# Altium footprint library db.PcbLib: 32 footprints (part 2 of 2)
Each footprint in its own frame and in the unit in brackets; x right, y up, seen from the top. Pads: shape width x height; smd on the part's side, far side on the other; paste and mask are expansions set on the pad; w line width, h text height; cw(c..) or ccw(c..) is an arc to the next point about the centre after c.
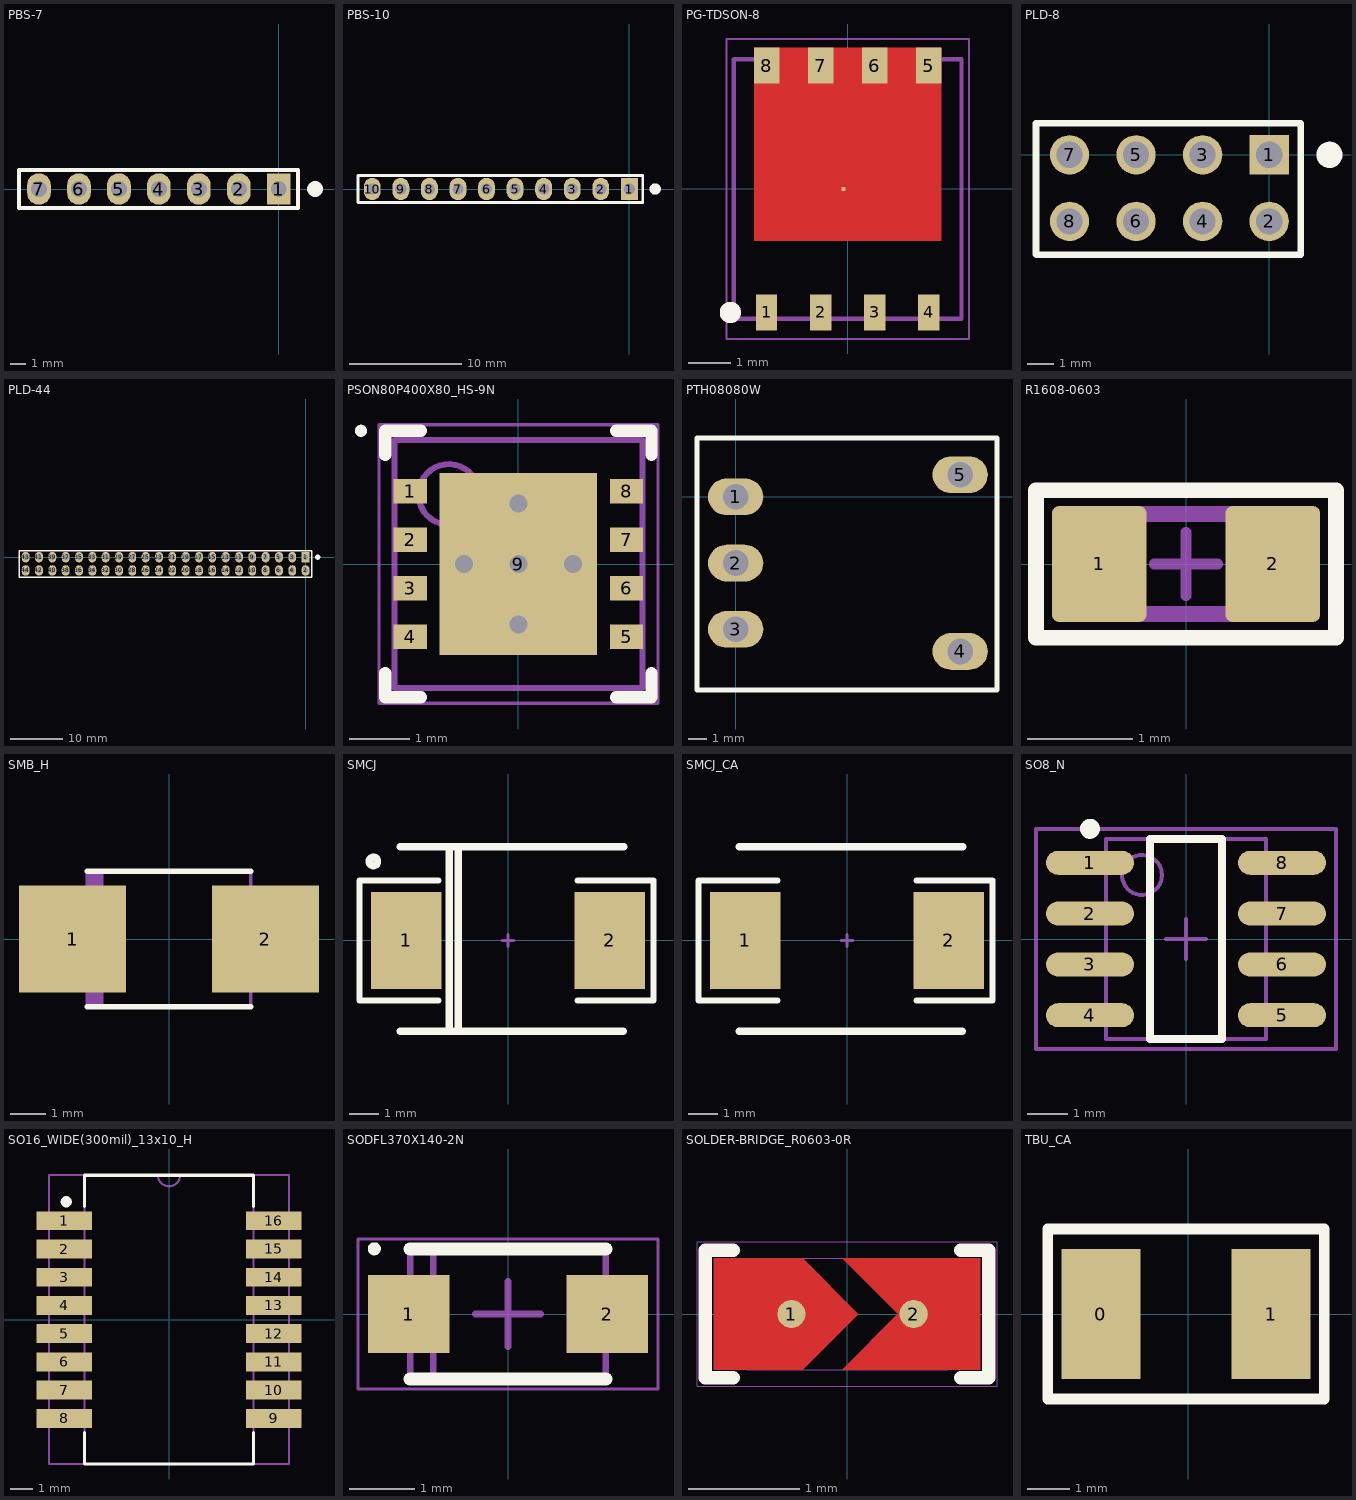
[diagram p1: the footprints below, top view; thin cyan lines are the x and y axes]

## PBS-7 [mm] "Разъем на плату"
pads (7):
  rect 1.5x2 hole 1: 1(0,0)
  oval 1.5x2 hole 1: 2(-2.54,0) 3(-5.08,0) 4(-7.62,0) 5(-10.16,0) 6(-12.7,0) 7(-15.24,0)
Top Overlay:
  circle w0.5: c2.3,0 r0.25
  lines w0.254: -16.51,-1.2 1.2,-1.2 1.2,1.2 -16.51,1.2 -16.51,-1.2
3D body "PBS-7.step": height 8.5, standoff -3, extent -16.51,-1.27 1.27,1.27

## PBS-10 [mm] "Разъем на плату"
pads (10):
  rect 1.5x2 hole 1: 1(0,0)
  oval 1.5x2 hole 1: 2(-2.54,0) 3(-5.08,0) 4(-7.62,0) 5(-10.16,0) 6(-12.7,0) 7(-15.24,0) 8(-17.78,0) 9(-20.32,0) 10(-22.86,0)
Top Overlay:
  circle w0.5: c2.3,0 r0.25
  lines w0.254: -24.13,-1.2 1.2,-1.2 1.2,1.2 -24.13,1.2 -24.13,-1.2
3D body "PBS-10.step": height 8.5, standoff -3, extent -24.13,-1.27 1.27,1.27

## PG-TDSON-8 [mm]
pads (9):
  rect 0.5x0.85 smd paste-0.05: 1(-1.905,-2.9) 2(-0.635,-2.9) 3(0.635,-2.9) 4(1.905,-2.9)
  rect 0.6x0.85 smd paste-0.05: 5(1.905,2.9) 6(0.635,2.9) 7(-0.635,2.9) 8(-1.905,2.9)
  rect 0.1x0.1 smd paste-1 mask-1: 9(-0.1,0)
Top Layer:
  rectangle: -2.205,-1.225 2.205,3.325
Top Overlay:
  circle w0.25: c-2.755,-2.9 r0.125
Top Paste:
  rectangle: 0.1,-0.95 1.6,0.55
  rectangle: 0.1,0.75 1.6,2.25
  rectangle: -1.6,-0.95 -0.1,0.55
  rectangle: -1.6,0.75 -0.1,2.25
Mechanical 13:
  lines w0.1: -2.675,-3.05 -2.675,3.05 2.675,3.05 2.675,-3.05 -2.675,-3.05
Mechanical 15:
  lines w0.05: -2.85,-3.525 -2.85,3.525 2.85,3.525 2.85,-3.525 -2.85,-3.525
3D body "User Library-TDSON-8-1.STEP": height 1, standoff 0, extent -2.675,-3.075 2.675,3.075

## PLD-8 [mm] "Разъем на плату"
pads (8):
  rect 1.5x1.5 hole 1: 1(0,0)
  round 1.5 hole 1: 2(0,-2.54) 3(-2.54,0) 4(-2.54,-2.54) 5(-5.08,0) 6(-5.08,-2.54) 7(-7.62,0) 8(-7.62,-2.54)
Top Overlay:
  circle w0.5: c2.3,0 r0.25
  lines w0.254: -8.9,-3.8 -8.9,1.2 1.2,1.2 1.2,-3.81 -8.89,-3.81 -8.9,-3.8
3D body "PLD-8.step": height 8.6, standoff -3, extent -8.89,-3.81 1.27,1.27

## PLD-44 [mm] "Разъем на плату"
pads (44):
  rect 1.5x2 hole 1: 1(0,0)
  oval 1.5x2 hole 1: 2(0,-2.54) 3(-2.54,0) 4(-2.54,-2.54) 5(-5.08,0) 6(-5.08,-2.54) 7(-7.62,0) 8(-7.62,-2.54) 9(-10.16,0) 10(-10.16,-2.54) 11(-12.7,0) 12(-12.7,-2.54) 13(-15.24,0) 14(-15.24,-2.54) 15(-17.78,0) 16(-17.78,-2.54) 17(-20.32,0) 18(-20.32,-2.54) 19(-22.86,0) 20(-22.86,-2.54) 21(-25.4,0) 22(-25.4,-2.54) 23(-27.94,0) 24(-27.94,-2.54) 25(-30.48,0) 26(-30.48,-2.54) 27(-33.02,0) 28(-33.02,-2.54) 29(-35.56,0) 30(-35.56,-2.54) 31(-38.1,0) 32(-38.1,-2.54) 33(-40.64,0) 34(-40.64,-2.54) 35(-43.18,0) 36(-43.18,-2.54) 37(-45.72,0) 38(-45.72,-2.54) 39(-48.26,0) 40(-48.26,-2.54) 41(-50.8,0) 42(-50.8,-2.54) 43(-53.34,0) 44(-53.34,-2.54)
Top Overlay:
  circle w0.5: c2.3,0 r0.25
  lines w0.254: -54.61,-3.81 1.2,-3.81 1.2,1.2 -54.61,1.2 -54.61,-3.81
3D body "PLD-22.step": height 9.6, standoff -2, extent -26.67,-3.81 1.27,1.27
3D body "PLD-22.step": height 9.6, standoff -2, extent -54.61,-3.81 -26.67,1.27

## PSON80P400X80_HS-9N [mm]
pads (9):
  rect 0.55x0.4 smd: 1(-1.785,1.2) 2(-1.785,0.4) 3(-1.785,-0.4) 4(-1.785,-1.2) 5(1.785,-1.2) 6(1.785,-0.4) 7(1.785,0.4) 8(1.785,1.2)
  rect 2.6x3 smd paste-1.3: 9(0,0)
via -0.9,0 diameter 0.7 hole 0.3
via 0.9,0 diameter 0.7 hole 0.3
via 0,-1 diameter 0.7 hole 0.3
via 0,0 diameter 0.7 hole 0.3
via 0,1 diameter 0.7 hole 0.3
Top Overlay:
  circle w0.1: c-2.6,2.2 r0.05
  lines w0.2: -2.2,-1.8 -2.2,-2.2 -1.61,-2.2 ; -2.2,1.8 -2.2,2.2 -1.61,2.2 ; 1.61,-2.2 2.2,-2.2 2.2,-1.8 ; 1.61,2.2 2.2,2.2 2.2,1.8
Top Paste:
  rectangle: 0.1,-1.4 1.2,-0.1
  rectangle: 0.1,0.1 1.2,1.4
  rectangle: -1.2,-1.4 -0.1,-0.1
  rectangle: -1.2,0.1 -0.1,1.4
Mechanical 13:
  circle w0.1: c-1.15,1.15 r0.5
  lines w0.1: -2.05,-2.05 2.05,-2.05 2.05,2.05 -2.05,2.05 -2.05,-2.05
Mechanical 15:
  lines w0.05: -2.305,-2.3 2.305,-2.3 2.305,2.3 -2.305,2.3 -2.305,-2.3
  lines w0.1: -0.5,0 0.5,0 ; 0,-0.5 0,0.5
3D body "PSON80P400X80_HS-9N.step": height 0.8, standoff 0, extent -2.051,-2.05 2.051,2.05

## PTH08080W [mm]
pads (5):
  oval 3x2 hole 1.4: 1(0,0) 2(0,-3.6) 3(0,-7.2) 4(12.2,-8.4) 5(12.2,1.2)
Top Overlay:
  lines w0.254: -2.1,-10.5 -2.1,3.2 14.2,3.2 14.2,-10.5 -2.1,-10.5
3D body "User Library-PTH.step": height 8.3, standoff -3.43, extent -1.44,-10.05 13.8,2.65

## R1608-0603 [mm] "Chip Resistor; Body 1.6 x 0.8 mm (LxW typ)"
height 0.9
pads (2):
  rrect15% 0.9x1.1 smd paste-0.05 mask+0.05: 1(-0.825,0) 2(0.825,0)
Top Overlay:
  lines w0.15: -1.425,-0.7 -1.425,0.7 1.425,0.7 1.425,-0.7 -1.425,-0.7
Mechanical 13:
  lines w0.15: -0.525,-0.475 -0.525,0.475 ; 0.525,-0.475 0.525,0.475 ; -0.825,-0.475 0.825,-0.475 0.825,0.475 -0.825,0.475 -0.825,-0.475
Mechanical 15:
  lines w0.1: -0.3,0 0.3,0 ; 0,-0.3 0,0.3
3D body "res0603r.STEP": height 0.45, standoff 0, extent -0.8,-0.4 0.8,0.4

## SMB_H [mm]
pads (2):
  rect 3x3 smd: 1(-2.7,0) 2(2.7,0)
Top Overlay:
  lines w0.15: -2.29,-1.9 2.29,-1.9 ; -2.29,1.9 2.29,1.9
Mechanical 7:
  lines w0.1: -2.29,-1.1 -2.8,-1.1 -2.8,1.1 -2.29,1.1 ; -2.19,-1.9 -2.19,1.9 ; -2.09,-1.9 -2.09,1.9 ; -1.99,-1.9 -1.99,1.9 ; -1.89,-1.9 -1.89,1.9 ; 2.29,-1.1 2.8,-1.1 2.8,1.1 2.29,1.1 ; -2.29,-1.9 -2.29,1.9 2.29,1.9 2.29,-1.9 -2.29,-1.9
3D body "SMB.STEP": height 2.4, standoff 0, extent -2.8,-1.9 2.8,1.9

## SMCJ [mm] "DO-214-AB/SMC; 2 C-Bend Leads; Body 7.9 x 5.9 mm, inc. leads (LxW)"
height 2.65
pads (2):
  rect 2.4x3.3 smd: 1(-3.475,0) 2(3.475,0)
Top Overlay:
  circle w0.254: c-4.6,2.7 r0.141
  lines w0.2: -2.375,-2.05 -5.075,-2.05 -5.075,2.05 -2.375,2.05 ; 2.375,-2.05 4.975,-2.05 4.975,2.055 ; 2.375,2.05 4.975,2.05
  lines w0.254: -3.682,-3.1 3.945,-3.1 ; -3.682,3.2 3.955,3.2 ; -2,-3 -2,3.1 ; -1.7,-3.1 -1.7,3.2
Mechanical 1:
  lines w0.1: -0.2,0 0.2,0 ; 0,-0.2 0,0.2
3D body "DO-214AB.STEP": height 2.89, standoff -0.04, extent -3.887,-3.1 4.163,3.15

## SMCJ_CA [mm] "DO-214-AB/SMC; 2 C-Bend Leads; Body 7.9 x 5.9 mm, inc. leads (LxW)"
height 2.65
pads (2):
  rect 2.4x3.3 smd: 1(-3.475,0) 2(3.475,0)
Top Overlay:
  lines w0.2: -2.375,-2.05 -5.075,-2.05 -5.075,2.05 -2.375,2.05 ; 2.375,-2.05 4.975,-2.05 4.975,2.055 ; 2.375,2.05 4.975,2.05
  lines w0.254: -3.682,-3.1 3.945,-3.1 ; -3.682,3.2 3.955,3.2
Mechanical 1:
  lines w0.1: -0.2,0 0.2,0 ; 0,-0.2 0,0.2
3D body "DO-214AB.STEP": height 2.89, standoff -0.04, extent -3.887,-3.1 4.163,3.15

## SO8_N [mm] "SOIC, 8-Leads, Body 4.9x3.9mm, Pitch 1.27mm, IPC Medium Density"
height 1.75
pads (8):
  oval 2.2x0.6 smd: 1(-2.4,1.905) 2(-2.4,0.635) 3(-2.4,-0.635) 4(-2.4,-1.905) 5(2.4,-1.905) 6(2.4,-0.635) 7(2.4,0.635) 8(2.4,1.905)
Top Overlay:
  circle w0.25: c-2.4,2.755 r0.125
  lines w0.2: -0.9,-2.5 0.9,-2.5 0.9,2.5 -0.9,2.5 -0.9,-2.5
Mechanical 13:
  circle w0.1: c-1.1,1.6 r0.5
  lines w0.1: -2,-2.5 2,-2.5 2,2.5 -2,2.5 -2,-2.5
Mechanical 15:
  lines w0.1: -0.5,0 0.5,0 ; 0,-0.5 0,0.5 ; -3.75,-2.75 3.75,-2.75 3.75,2.75 -3.75,2.75 -3.75,-2.75
3D body "SOIC127P600-8.STEP": height 1.7, standoff 0, extent -3,-2.54 3,2.54

## SO16_WIDE(300mil)_13x10_H [mm]
pads (16):
  rect 2.5x0.85 smd: 1(-4.71,4.445) 2(-4.71,3.175) 3(-4.71,1.905) 4(-4.71,0.635) 5(-4.71,-0.635) 6(-4.71,-1.905) 7(-4.71,-3.175) 8(-4.71,-4.445) 9(4.71,-4.445) 10(4.71,-3.175) 11(4.71,-1.905) 12(4.71,-0.635) 13(4.71,0.635) 14(4.71,1.905) 15(4.71,3.175) 16(4.71,4.445)
Top Overlay:
  circle w0.25: c-4.625,5.3 r0.125
  lines w0.15: -3.8,-5.1 -3.8,-6.5 3.8,-6.5 3.8,-5.1 ; -3.8,5.1 -3.8,6.5 3.8,6.5 3.8,5.1
Mechanical 7:
  lines w0.1: -3.8,-6.5 -3.8,6.5 ; -0.5,6.5 ccw(c0,6.5) 0.5,6.5 ; 3.8,-6.5 3.8,6.5 ; -5.4,-6.5 -5.4,6.5 5.4,6.5 5.4,-6.5 -5.4,-6.5
Mechanical 10:
  text ".Designator" at -1.8,6.8 h0.8
  text ".Comment" at -1.1,-7.3 h0.6
3D body "User Library-so16w.step": height 3.5, standoff 0, extent -5.15,-5.1 5.15,5.1

## SODFL370X140-2N [mm]
pads (2):
  rect 1.25x1.2 smd: 1(-1.525,0) 2(1.525,0)
Top Overlay:
  circle w0.1: c-2.05,1 r0.05
  lines w0.2: -1.5,-1 1.5,-1 ; -1.5,1 1.5,1
Mechanical 13:
  lines w0.1: -1.143,-1 -1.143,1 ; -1.5,-1 1.5,-1 1.5,1 -1.5,1 -1.5,-1
Mechanical 15:
  lines w0.05: -2.3,-1.15 2.3,-1.15 2.3,1.15 -2.3,1.15 -2.3,-1.15
  lines w0.1: -0.5,0 0.5,0 ; 0,-0.5 0,0.5
3D body "SODFL370X140-2N.step": height 1.4, standoff 0, extent -1.85,-1 1.85,1

## SOLDER-BRIDGE_R0603-0R [mil]
pads (2):
  round 10 smd paste-393.7 mask+4: 1(-19.68,0) 2(23.62,0)
Top Layer:
  region: -1.69,19.68 18,0 -1.69,-19.69 47.24,-19.68 47.24,19.68
  region: -47.24,-19.68 -47.24,19.68 -15.75,19.68 3.94,0 -15.75,-19.68
Top Overlay:
  lines w4.72: -40.35,-22.64 -50.2,-22.64 -50.2,6.89 -50.2,22.64 -40.35,22.64 ; 40.35,-22.64 50.2,-22.64 50.2,22.64 40.35,22.64
Top Paste:
  rectangle: -40.15,-19.68 -14.95,19.69
  rectangle: 14.95,-19.68 40.15,19.69
Top Solder:
  region: 10.83,0 -10.83,21.65 42.32,21.65 42.32,-21.65 -10.83,-21.65
  region: -42.32,21.65 -14.76,21.65 6.89,0 -14.76,-21.65 -42.32,-21.65
Mechanical 14:
  lines w0.39: -35.43,-19.68 35.43,-19.68 35.43,19.68 -35.43,19.68 -35.43,-19.68
Mechanical 16:
  lines w0.39: -53.15,-25.59 53.15,-25.59 53.15,25.59 -7.87,25.59 -53.15,25.59 -53.15,-25.59
3D body: height 19.68, standoff 0, extent -35.63,-19.88 35.63,19.88

## TBU_CA [mm]
pads (2):
  rect 1.85x3.05 smd: 0(-2.05,0) 1(1.95,0)
Top Overlay:
  lines w0.254: -3.3,-2 -3.3,2 3.2,2 3.2,-2 -3.3,-2
3D body "bornus tbu-ca.STEP": height 1.1, standoff 0.05, extent -3.25,-2 3.25,2